# EAGLE library part 61801529321 (library SD-kart)
WR-DSUB Female PCB Connector with Hex Screw 15 Pins=>Code : Con_I-O_DSUB_PCB_Female_w-screw_61801529321 <https://katalog.we-online.com/media/images/v2/o33090v209%20Family_WR-DSUB_6180xx29321.jpg> Details see: https://katalog.we-online.com/en/em/DSUB_FEMALE_PCB_CONNECTOR_W_HEX_SCREW_6180XX29321 Updated by Ella Wu 2019-03-20 2019 (C) Würth Elektronik
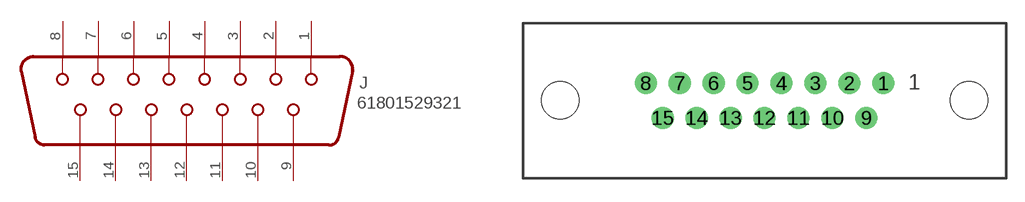
[diagram p8: symbol with the pads of 61801529321; footprint 61801529321]

Designator prefix J

## 61801529321 (WE-NUMBER: 61801529321)  [61801529321]
1  1
2  2
3  3
4  4
5  5
6  6
7  7
8  8
9  9
10  10
11  11
12  12
13  13
14  14
15  15

## Footprint 61801529321 (pad centres in mm)
WR-DSUB Female PCB Connector with Hex Screw, 15 Pins
drill 1.2: 1 9.69,1.42; 2 6.92,1.42; 3 4.15,1.42; 4 1.38,1.42; 5 -1.39,1.42; 6 -4.16,1.42; 7 -6.93,1.42; 8 -9.7,1.42; 9 8.305,-1.42; 10 5.535,-1.42; 11 2.765,-1.42; 12 -0.005,-1.42; 13 -2.775,-1.42; 14 -5.545,-1.42; 15 -8.315,-1.42
hole 3.05 at -16.66,0
hole 3.05 at 16.66,0